# EAGLE library part 74HCT164 (library CMOS_5VLogic)
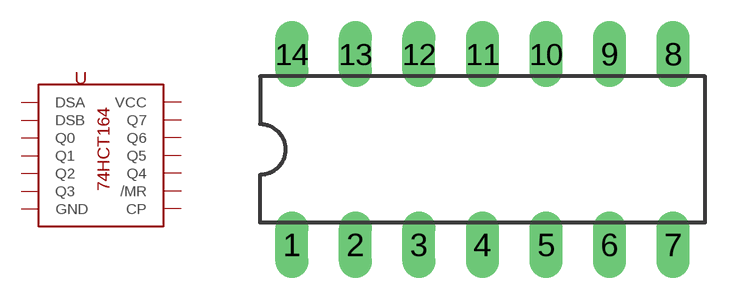
[diagram p0: symbol with the pads of DIL14; footprint DIL14]

Designator prefix U

## 74HCT164  [DIL14]
1  DSA
2  DSB
3  Q0
4  Q1
5  Q2
6  Q3
7  GND
8  CP
9  /MR
10  Q4
11  Q5
12  Q6
13  Q7
14  VCC

## Footprint DIL14 (pad centres in mm)
drill 0.813 long: 1 -7.62,-3.81; 2 -5.08,-3.81; 3 -2.54,-3.81; 4 0,-3.81; 5 2.54,-3.81; 6 5.08,-3.81; 7 7.62,-3.81; 8 7.62,3.81; 9 5.08,3.81; 10 2.54,3.81; 11 0,3.81; 12 -2.54,3.81; 13 -5.08,3.81; 14 -7.62,3.81